# Altium integrated library BLM21SP111SN1D.IntLib: 1 symbol
Pins are listed as number, name and electrical type; pins without a type are passive.

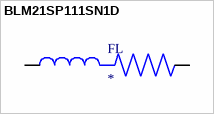
[diagram p0: symbol BLM21SP111SN1D]

## BLM21SP111SN1D
designator FL
110 ом @ 100 МГц 1 линия электропередач ферритовый шарик 0805 (2012 Метрика) 5A; MF: Murata; MP: BLM21SP111SN1D
footprint BEADC2012X105N
pins: 1, 2